# Altium footprint library SnapEDApcb.PcbLib: 1 footprints
Each footprint in its own frame and in the unit in brackets; x right, y up, seen from the top. Pads: shape width x height; smd on the part's side, far side on the other; paste and mask are expansions set on the pad; w line width, h text height; cw(c..) or ccw(c..) is an arc to the next point about the centre after c.
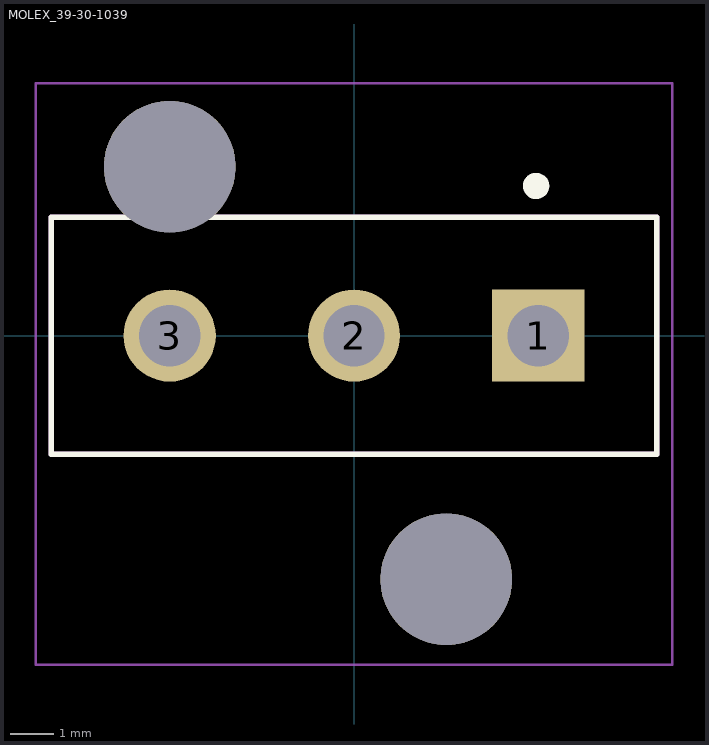
[diagram p0: the footprint, top view; thin cyan lines are the x and y axes]

## MOLEX_39-30-1039 [mm]
pads (5):
  rect 2.1x2.1 hole 1.4: 1(4.2,0)
  round 2.1 hole 1.4: 2(0,0) 3(-4.2,0)
  round 3 hole 3 unplated: ""(-4.2,3.85) ""(2.1,-5.55)
Top Overlay:
  circle w0.3: c4.15,3.41 r0.15
  lines w0.127: -6.9,-2.7 6.9,-2.7 6.9,2.7 -6.9,2.7 -6.9,-2.7
Mechanical 13:
  lines w0.127: -6.9,-2.7 6.9,-2.7 6.9,2.7 -6.9,2.7 -6.9,-2.7
Mechanical 15:
  lines w0.05: -7.25,-7.5 7.25,-7.5 7.25,5.75 -7.25,5.75 -7.25,-7.5